# Altium footprint library lt-packages.PcbLib: 6 footprints
Each footprint in its own frame and in the unit in brackets; x right, y up, seen from the top. Pads: shape width x height; smd on the part's side, far side on the other; paste and mask are expansions set on the pad; w line width, h text height; cw(c..) or ccw(c..) is an arc to the next point about the centre after c.
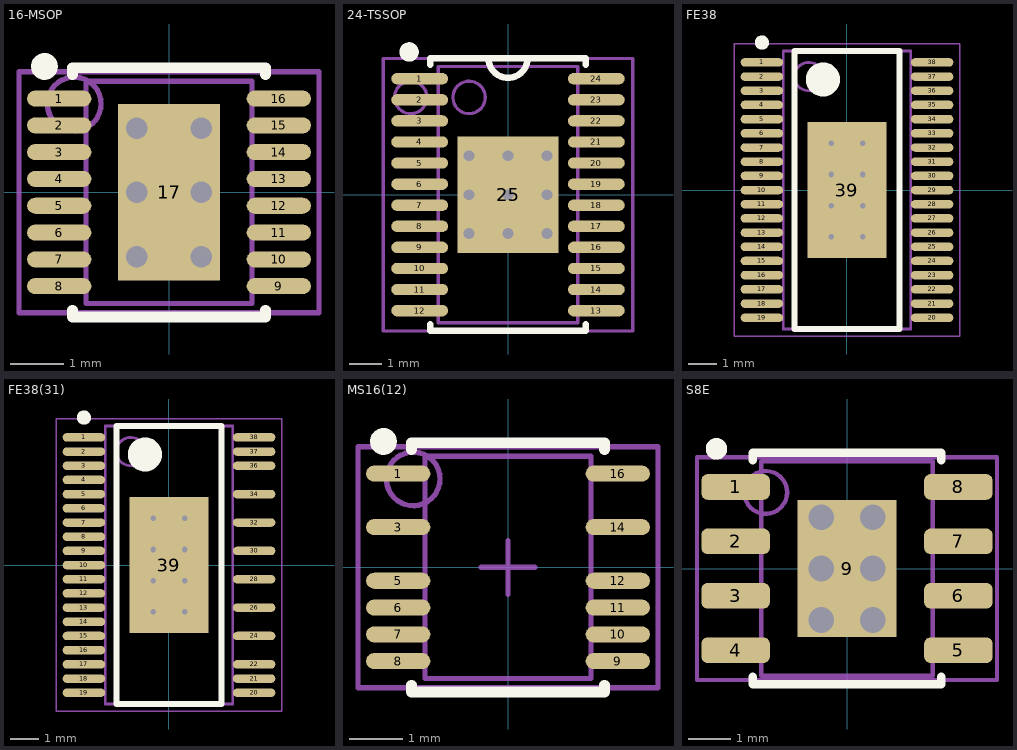
[diagram p0: the footprints below, top view; thin cyan lines are the x and y axes]

## 16-MSOP [mm] "TSSOP, 16-Leads, Body 4.2x3.1mm (max), Pitch 0.50mm, IPC Medium Density"
height 1.1
pads (17):
  oval 1.2x0.3 smd: 1(-2.05,1.75) 2(-2.05,1.25) 3(-2.05,0.75) 4(-2.05,0.25) 5(-2.05,-0.25) 6(-2.05,-0.75) 7(-2.05,-1.25) 8(-2.05,-1.75) 9(2.05,-1.75) 10(2.05,-1.25) 11(2.05,-0.75) 12(2.05,-0.25) 13(2.05,0.25) 14(2.05,0.75) 15(2.05,1.25) 16(2.05,1.75)
  rect 1.9x3.3 smd: 17(0,0)
via 0.6,-1.2 diameter 0.7 hole 0.4
via -0.6,-1.2 diameter 0.7 hole 0.4
via 0.6,0 diameter 0.7 hole 0.4
via -0.6,0 diameter 0.7 hole 0.4
via 0.6,1.2 diameter 0.7 hole 0.4
via -0.6,1.2 diameter 0.7 hole 0.4
Top Overlay:
  circle w0.25: c-2.325,2.35 r0.125
  lines w0.2: -1.8,-2.2 -1.8,-2.325 1.8,-2.325 1.8,-2.2 ; -1.8,2.2 -1.8,2.325 1.8,2.325 1.8,2.2
Mechanical 13:
  lines w0.1: -0.5,0 0.5,0 ; 0,-0.5 0,0.5 ; -1.55,-2.075 1.55,-2.075 1.55,2.075 -1.55,2.075 -1.55,-2.075
Mechanical 15:
  circle w0.1: c-1.77,1.651 r0.5
  lines w0.1: -2.8,-2.25 2.8,-2.25 2.8,2.25 -2.8,2.25 -2.8,-2.25
  text ".Designator" at 0.15,-1.825 h0.5
3D body: height 1.1, standoff 0.1, extent -1.55,-2.075 1.55,2.075

## 24-TSSOP [mm] "TSOP, 24-Leads, Body 7.9x4.3mm (max), Pitch 0.65mm, IPC Medium Density"
height 1.2
pads (25):
  oval 1.75x0.35 smd: 1(-2.725,3.575) 2(-2.725,2.925) 3(-2.725,2.275) 4(-2.725,1.625) 5(-2.725,0.975) 6(-2.725,0.325) 7(-2.725,-0.325) 8(-2.725,-0.975) 9(-2.725,-1.625) 10(-2.725,-2.275) 11(-2.725,-2.925) 12(-2.725,-3.575) 13(2.725,-3.575) 14(2.725,-2.925) 15(2.725,-2.275) 16(2.725,-1.625) 17(2.725,-0.975) 18(2.725,-0.325) 19(2.725,0.325) 20(2.725,0.975) 21(2.725,1.625) 22(2.725,2.275) 23(2.725,2.925) 24(2.725,3.575)
  rect 3.1x3.6 smd: 25(0,0)
via 1.2,-1.2 diameter 0.66 hole 0.33
via 0,-1.2 diameter 0.66 hole 0.33
via -1.2,-1.2 diameter 0.66 hole 0.33
via 1.2,0 diameter 0.66 hole 0.33
via 0,0 diameter 0.66 hole 0.33
via -1.2,0 diameter 0.66 hole 0.33
via 1.2,1.2 diameter 0.66 hole 0.33
via 0,1.2 diameter 0.66 hole 0.33
via -1.2,1.2 diameter 0.66 hole 0.33
Top Overlay:
  circle w0.3: c-3.05,4.4 r0.15
  lines w0.2: -2.4,-4 -2.4,-4.2 2.4,-4.2 2.4,-4 ; -2.4,4 -2.4,4.2 2.4,4.2 2.4,4 ; -0.6,4.2 ccw(c0,4.2) 0.6,4.2
Mechanical 13:
  circle w0.1: c-1.2,3 r0.5
  lines w0.1: -0.5,0 0.5,0 ; 0,-0.5 0,0.5 ; -2.15,-3.95 2.15,-3.95 2.15,3.95 -2.15,3.95 -2.15,-3.95
Mechanical 15:
  circle w0.1: c-3,3 r0.5
  lines w0.1: -3.85,-4.2 3.85,-4.2 3.85,4.2 -3.85,4.2 -3.85,-4.2
  text ".Designator" at 0.15,-1.825 h0.5
3D body "User Library-TSSOP-24.STEP": height 1.2, standoff 0, extent -3.2,-3.9 3.2,3.9

## FE38 [mm] "TSSOP, 38-Leads, Body 9.70x4.40mm, Pitch 0.50mm, Thermal Pad 4.80x2.80mm, IPC Medium Density"
height 1.2
pads (39):
  oval 1.5x0.3 smd: 1(-3,4.5) 2(-3,4) 3(-3,3.5) 4(-3,3) 5(-3,2.5) 6(-3,2) 7(-3,1.5) 8(-3,1) 9(-3,0.5) 10(-3,0) 11(-3,-0.5) 12(-3,-1) 13(-3,-1.5) 14(-3,-2) 15(-3,-2.5) 16(-3,-3) 17(-3,-3.5) 18(-3,-4) 19(-3,-4.5) 20(3,-4.5) 21(3,-4) 22(3,-3.5) 23(3,-3) 24(3,-2.5) 25(3,-2) 26(3,-1.5) 27(3,-1) 28(3,-0.5) 29(3,0) 30(3,0.5) 31(3,1) 32(3,1.5) 33(3,2) 34(3,2.5) 35(3,3) 36(3,3.5) 37(3,4) 38(3,4.5)
  rect 2.8x4.8 smd: 39(0,0)
via 0.55,-1.65 diameter 0.5 hole 0.2
via -0.55,-1.65 diameter 0.5 hole 0.2
via 0.55,-0.55 diameter 0.5 hole 0.2
via -0.55,-0.55 diameter 0.5 hole 0.2
via 0.55,0.55 diameter 0.5 hole 0.2
via -0.55,0.55 diameter 0.5 hole 0.2
via 0.55,1.65 diameter 0.5 hole 0.2
via -0.55,1.65 diameter 0.5 hole 0.2
Top Overlay:
  circle w0.6: c-0.85,3.9 r0.3
  circle w0.25: c-3,5.2 r0.125
  lines w0.2: -1.85,-4.9 1.85,-4.9 1.85,4.9 -1.85,4.9 -1.85,-4.9
Mechanical 13:
  circle w0.1: c-1.35,4 r0.5
  lines w0.1: -2.25,-4.9 2.25,-4.9 2.25,4.9 -2.25,4.9 -2.25,-4.9
Mechanical 15:
  lines w0.05: -3.975,-5.15 3.975,-5.15 3.975,5.15 -3.975,5.15 -3.975,-5.15
  lines w0.1: -0.5,0 0.5,0 ; 0,-0.5 0,0.5
3D body: height 1.2, standoff 0.05, extent -2.25,-4.9 2.25,4.9

## FE38(31) [mm] "TSSOP, 38-Leads, Body 9.70x4.40mm, Pitch 0.50mm, Thermal Pad 4.80x2.80mm, IPC Medium Density"
height 1.2
pads (32):
  oval 1.5x0.3 smd: 1(-3,4.5) 2(-3,4) 3(-3,3.5) 4(-3,3) 5(-3,2.5) 6(-3,2) 7(-3,1.5) 8(-3,1) 9(-3,0.5) 10(-3,0) 11(-3,-0.5) 12(-3,-1) 13(-3,-1.5) 14(-3,-2) 15(-3,-2.5) 16(-3,-3) 17(-3,-3.5) 18(-3,-4) 19(-3,-4.5) 20(3,-4.5) 21(3,-4) 22(3,-3.5) 24(3,-2.5) 26(3,-1.5) 28(3,-0.5) 30(3,0.5) 32(3,1.5) 34(3,2.5) 36(3,3.5) 37(3,4) 38(3,4.5)
  rect 2.8x4.8 smd: 39(0,0)
via 0.55,-1.65 diameter 0.5 hole 0.2
via -0.55,-1.65 diameter 0.5 hole 0.2
via 0.55,-0.55 diameter 0.5 hole 0.2
via -0.55,-0.55 diameter 0.5 hole 0.2
via 0.55,0.55 diameter 0.5 hole 0.2
via -0.55,0.55 diameter 0.5 hole 0.2
via 0.55,1.65 diameter 0.5 hole 0.2
via -0.55,1.65 diameter 0.5 hole 0.2
Top Overlay:
  circle w0.6: c-0.85,3.9 r0.3
  circle w0.25: c-3,5.2 r0.125
  lines w0.2: -1.85,-4.9 1.85,-4.9 1.85,4.9 -1.85,4.9 -1.85,-4.9
Mechanical 13:
  circle w0.1: c-1.35,4 r0.5
  lines w0.1: -2.25,-4.9 2.25,-4.9 2.25,4.9 -2.25,4.9 -2.25,-4.9
Mechanical 15:
  lines w0.05: -3.975,-5.15 3.975,-5.15 3.975,5.15 -3.975,5.15 -3.975,-5.15
  lines w0.1: -0.5,0 0.5,0 ; 0,-0.5 0,0.5
3D body: height 1.2, standoff 0.05, extent -2.25,-4.9 2.25,4.9

## MS16(12) [mm] "TSSOP, 16-Leads, Body 4.2x3.1mm (max), Pitch 0.50mm, IPC Medium Density"
height 1.1
pads (12):
  oval 1.2x0.3 smd: 1(-2.05,1.75) 3(-2.05,0.75) 5(-2.05,-0.25) 6(-2.05,-0.75) 7(-2.05,-1.25) 8(-2.05,-1.75) 9(2.05,-1.75) 10(2.05,-1.25) 11(2.05,-0.75) 12(2.05,-0.25) 14(2.05,0.75) 16(2.05,1.75)
Top Overlay:
  circle w0.25: c-2.325,2.35 r0.125
  lines w0.2: -1.8,-2.2 -1.8,-2.325 1.8,-2.325 1.8,-2.2 ; -1.8,2.2 -1.8,2.325 1.8,2.325 1.8,2.2
Mechanical 13:
  lines w0.1: -0.5,0 0.5,0 ; 0,-0.5 0,0.5 ; -1.55,-2.075 -1.55,2.075 1.55,2.075 1.55,-2.075 -1.55,-2.075
Mechanical 15:
  circle w0.1: c-1.77,1.651 r0.5
  lines w0.1: -2.8,-2.25 -2.8,2.25 2.8,2.25 2.8,-2.25 -2.8,-2.25
  text ".Designator" at 0.15,-1.825 h0.5
3D body: height 1.1, standoff 0.1, extent -1.55,-2.075 1.55,2.075

## S8E [mm] "SOP, 8-Leads, Body 5.0x4.0mm (max), Pitch 1.27mm, IPC High Density"
height 1.75
pads (9):
  rrect50% 1.6x0.6 smd: 1(-2.6,1.905) 2(-2.6,0.635) 3(-2.6,-0.635) 4(-2.6,-1.905) 5(2.6,-1.905) 6(2.6,-0.635) 7(2.6,0.635) 8(2.6,1.905)
  rect 2.3x3.2 smd: 9(0,0)
via 0.6,-1.2 diameter 0.8 hole 0.6
via -0.6,-1.2 diameter 0.8 hole 0.6
via 0.6,0 diameter 0.8 hole 0.6
via -0.6,0 diameter 0.8 hole 0.6
via 0.6,1.2 diameter 0.8 hole 0.6
via -0.6,1.2 diameter 0.8 hole 0.6
Top Overlay:
  circle w0.25: c-3.046,2.794 r0.125
  lines w0.2: -2.2,-2.525 -2.2,-2.7 2.2,-2.7 2.2,-2.525 ; -2.2,2.525 -2.2,2.7 2.2,2.7 2.2,2.525
Mechanical 13:
  lines w0.1: -2,-2.5 2,-2.5 2,2.5 -2,2.5 -2,-2.5
Mechanical 15:
  circle w0.1: c-1.897,1.778 r0.5
  lines w0.1: -0.5,0 0.5,0 ; 0,-0.5 0,0.5 ; -3.5,-2.6 3.5,-2.6 3.5,2.6 -3.5,2.6 -3.5,-2.6
  text ".Designator" at -2.672,-0.2 h0.8
3D body "User Library-IPC SO.step": height 1.9, standoff 0, extent -3.028,-2.5 3.028,2.5